# EAGLE library part ZIKCART36 (library skeezix)
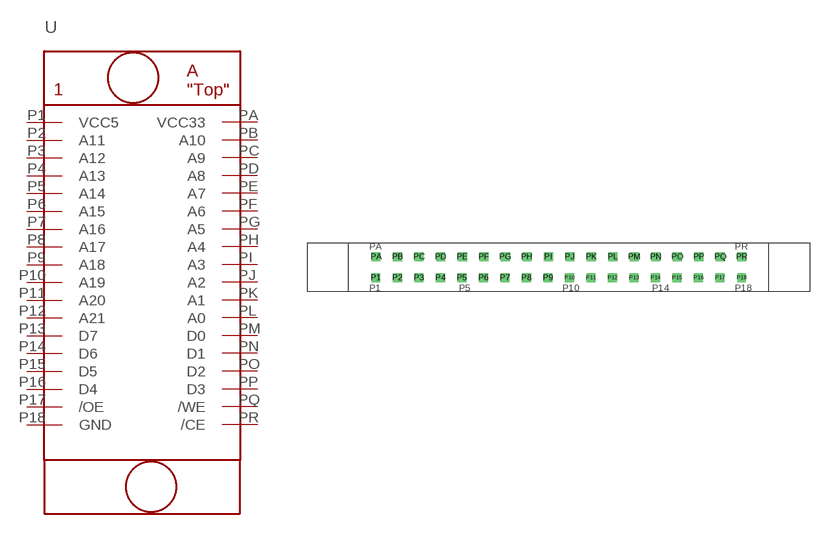
[diagram p24: symbol with the pads of ZIKCARTSLOT; footprint ZIKCARTSLOT]

Designator prefix -

## ZIKCART36  [ZIKCARTSLOT]
P1  VCC5
P2  A11
P3  A12
P4  A13
P5  A14
P6  A15
P7  A16
P8  A17
P9  A18
P10  A19
P11  A20
P12  A21
P13  D7
P14  D6
P15  D5
P16  D4
P17  /OE
P18  GND
PA  VCC33
PB  A10
PC  A9
PD  A8
PE  A7
PF  A6
PG  A5
PH  A4
PI  A3
PJ  A2
PK  A1
PL  A0
PM  D0
PN  D1
PO  D2
PP  D3
PQ  /WE
PR  /CE

## Footprint ZIKCARTSLOT (pad centres in mm)
drill 1.1 square: P1 12.675,2.515; P2 16.637,2.515; P3 20.599,2.515; P4 24.562,2.515; P5 28.524,2.515; P6 32.487,2.515; P7 36.449,2.515; P8 40.411,2.515; P9 44.374,2.515; P10 48.336,2.515; P11 52.299,2.515; P12 56.261,2.515; P13 60.223,2.515; P14 64.186,2.515; P15 68.148,2.515; P16 72.111,2.515; P17 76.073,2.515; P18 80.035,2.515; PA 12.751,6.375; PB 16.713,6.375; PC 20.676,6.375; PD 24.638,6.375; PE 28.6,6.375; PF 32.563,6.375; PG 36.525,6.375; PH 40.488,6.375; PI 44.45,6.375; PJ 48.412,6.375; PK 52.375,6.375; PL 56.337,6.375; PM 60.3,6.375; PN 64.262,6.375; PO 68.224,6.375; PP 72.187,6.375; PQ 76.149,6.375; PR 80.112,6.375